# Altium footprint library VAR-RELAY-5V5A.PcbLib: 1 footprints
Each footprint in its own frame and in the unit in brackets; x right, y up, seen from the top. Pads: shape width x height; smd on the part's side, far side on the other; paste and mask are expansions set on the pad; w line width, h text height; cw(c..) or ccw(c..) is an arc to the next point about the centre after c.
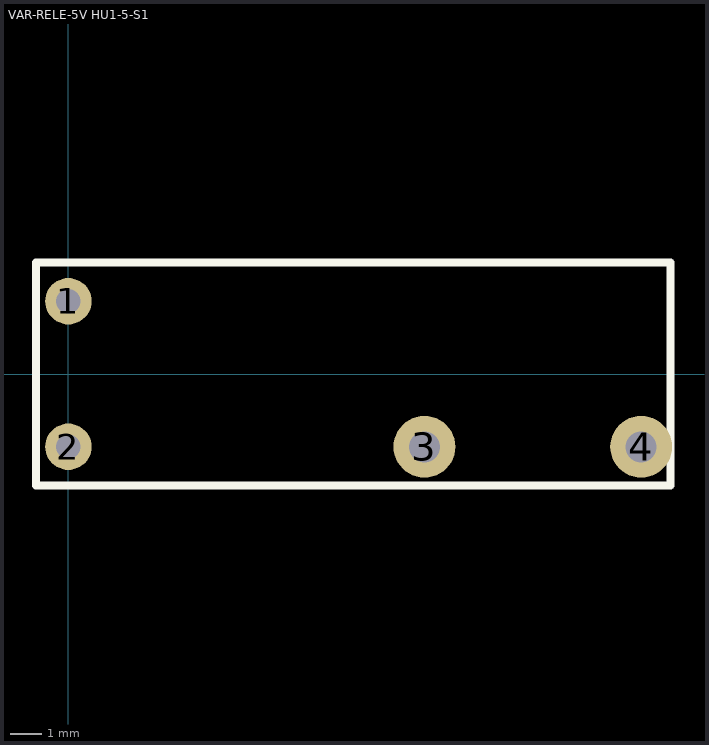
[diagram p0: the footprint, top view; thin cyan lines are the x and y axes]

## VAR-RELE-5V HU1-5-S1 [mm] "VAR-RELE-5V 1FORM-A 5A 5VCC P/CI HU1-5-S1"
pads (4):
  round 1.5 hole 0.8: 1(0,2.35) 2(0,-2.35)
  round 2 hole 1: 3(11.5,-2.35) 4(18.5,-2.35)
Top Overlay:
  lines w0.254: -1.05,-3.6 19.45,-3.6 19.45,3.6 -1.05,3.6 -1.05,-3.6
3D body "VAR-RELAY-5V5A.stp": height 15.3, standoff -3.8, extent -1.106,-3.654 19.394,3.556